# EAGLE library part NRF905 (library Common-Parts-Library-Eagle)
RF Transceiver GFSK 2.5V/3.3V 32-Pin QFN EP Tray
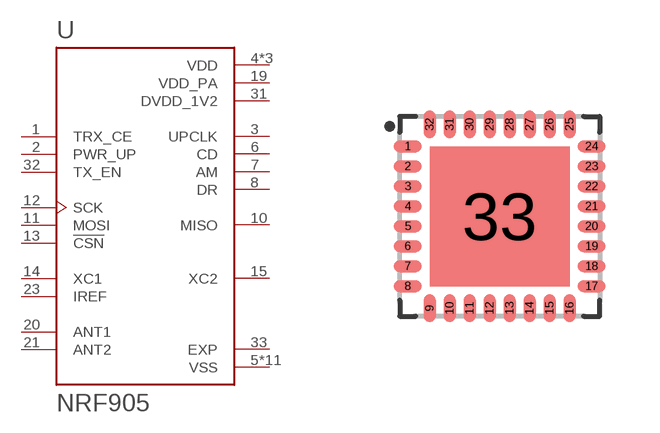
[diagram p46: symbol with the pads of QFN50P500X500X90-33N; footprint QFN50P500X500X90-33N]

Designator prefix U

## NRF905 (MANUFACTURER: Nordic Semiconductor)  [QFN50P500X500X90-33N]
1  TRX_CE  in
2  PWR_UP  in
3  UPCLK  out
4  VDD  pwr
5  VSS  pwr
6  CD  out
7  AM  out
8  DR  out
9  VSS  pwr
10  MISO  out
11  MOSI  in
12  SCK  in
13  !CSN  in
14  XC1  in
15  XC2  out
16  VSS  pwr
17  VDD  pwr
18  VSS  pwr
19  VDD_PA  pwr
20  ANT1  pas
21  ANT2  pas
22  VSS  pwr
23  IREF  in
24  VSS  pwr
25  VDD  pwr
26  VSS  pwr
27  VSS  pwr
28  VSS  pwr
29  VSS  pwr
30  VSS  pwr
31  DVDD_1V2  pwr
32  TX_EN  in
33  EXP  pwr

## Footprint QFN50P500X500X90-33N (pad centres in mm)
smd 0.7 x 0.3: 1 -2.3,1.75; 2 -2.3,1.25; 3 -2.3,0.75; 4 -2.3,0.25; 5 -2.3,-0.25; 6 -2.3,-0.75; 7 -2.3,-1.25; 8 -2.3,-1.75; 17 2.3,-1.75; 18 2.3,-1.25; 19 2.3,-0.75; 20 2.3,-0.25; 21 2.3,0.25; 22 2.3,0.75; 23 2.3,1.25; 24 2.3,1.75
smd 0.3 x 0.7: 9 -1.75,-2.3; 10 -1.25,-2.3; 11 -0.75,-2.3; 12 -0.25,-2.3; 13 0.25,-2.3; 14 0.75,-2.3; 15 1.25,-2.3; 16 1.75,-2.3; 25 1.75,2.3; 26 1.25,2.3; 27 0.75,2.3; 28 0.25,2.3; 29 -0.25,2.3; 30 -0.75,2.3; 31 -1.25,2.3; 32 -1.75,2.3
smd 3.5 x 3.5: 33 0,0